# Altium schematic symbol library PMIC.SchLib: 20 symbols
Pins are listed as number, name and electrical type; pins without a type are passive.

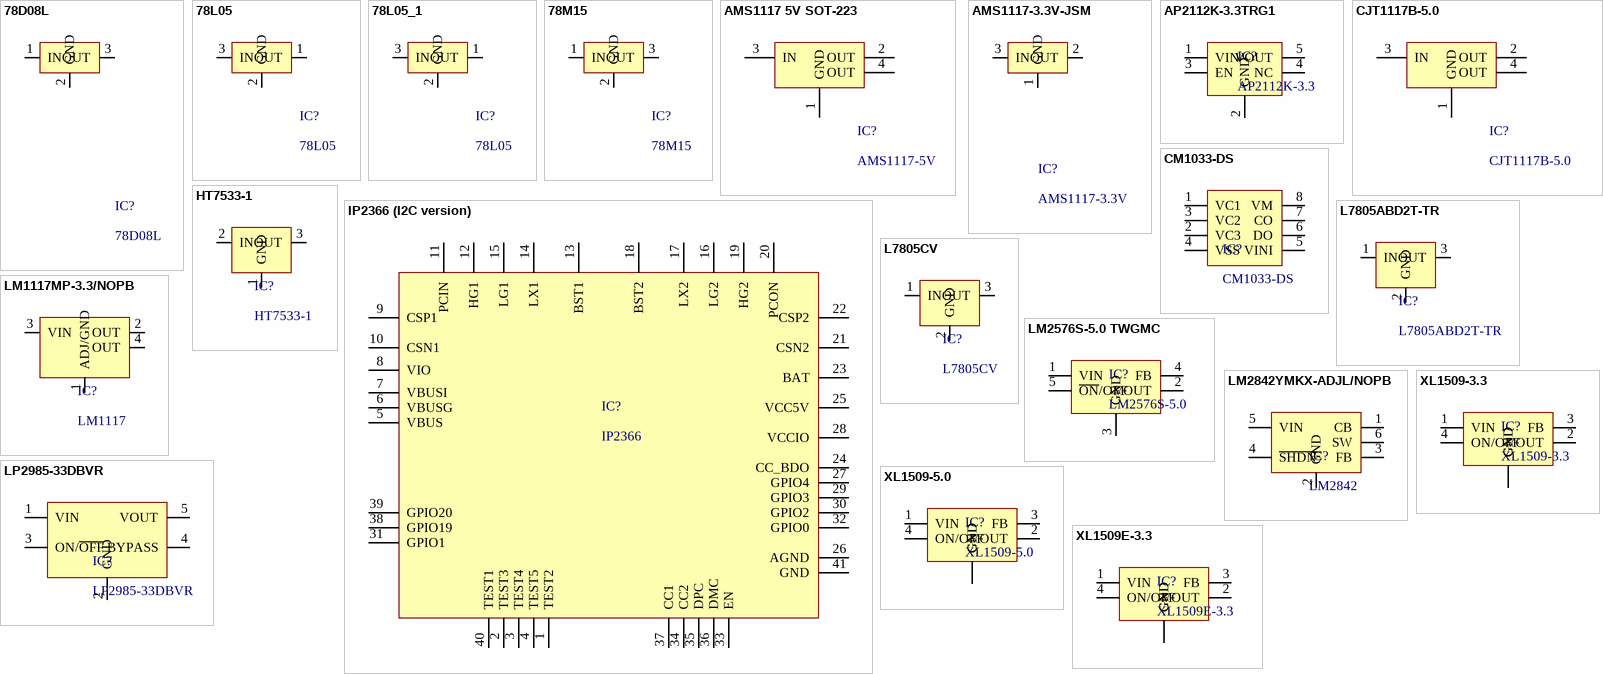
[diagram p0: symbols 78D08L to XL1509E-3.3]

## 78D08L
designator IC?
80dB@(120Hz) 1A Fixed 8V Positive 23V TO-252-2 Voltage Regulators - Linear, Low Drop Out (LDO) Regulators ROHS; Manufacturer: UMW; Mfr.Part #: 78D08L; Package: TO-252-2; LCSC Part #: C347286
footprint TO-252
pins: 1 IN, 2 GND, 3 OUT

## 78L05
designator IC?
100mA Fixed 5V Positive electrode 30V SOT-89 Voltage Regulators - Linear, Low Drop Out (LDO) Regulators ROHS; Manufacturer: MSKSEMI; Mfr.Part #: MS78L05; So_Chan_Dan: 3; So_Chan_Cam: 0; Name: 78L05; ComponentLink1Description: New link; ComponentLink1URL: https://www.lcsc.com/datasheet/lcsc_datasheet_2311231510_MSKSEMI-AMS1117-5-0V_C7473143.pdf; Package: SOT-89
footprint SOT-89
pins: 1 OUT, 2 GND, 3 IN

## 78L05_1
designator IC?, comment 78L05
100mA Fixed 5V Positive electrode 30V SOT-89 Voltage Regulators - Linear, Low Drop Out (LDO) Regulators ROHS; Manufacturer: MSKSEMI; Mfr.Part #: MS78L05; So_Chan_Dan: 3; So_Chan_Cam: 0; Name: 78L05; ComponentLink1Description: New link; ComponentLink1URL: https://www.lcsc.com/datasheet/lcsc_datasheet_2311231510_MSKSEMI-AMS1117-5-0V_C7473143.pdf; Package: SOT-89
footprint SOT-89
pins: 1 OUT, 2 GND, 3 IN

## 78M15
designator IC?
70dB@(120Hz) 1A Fixed 15V 35V TO-252 Voltage Regulators - Linear, Low Drop Out (LDO) Regulators ROHS; Manufacturer: UMW(Youtai Semiconductor Co., Ltd.); Mfr.Part #: 78M15; Package: TO-252
footprint TO-252
pins: 1 IN, 2 GND, 3 OUT

## AMS1117 5V SOT-223
designator IC?, comment AMS1117-5V
1A Fixed 5V Positive electrode 15V SOT-223 Voltage Regulators - Linear, Low Drop Out (LDO) Regulators ROHS; Manufacturer: MSKSEMI; Mfr.Part #: AMS1117-5.0(MS); So_Chan_Dan: 4; So_Chan_Cam: 0; Name: AMS1117-5.0(MS); ComponentLink1Description: New link; ComponentLink1URL: https://www.lcsc.com/product-detail/Voltage-Regulators-Linear-Low-Drop-Out-LDO-Regulators_MSKSEMI-AMS1117-5-0-MS_C20538892.html; Package: SOT-223
footprint SOT-223
pins: 1 GND, 2 OUT, 3 IN, 4 OUT

## AMS1117-3.3V-JSM
designator IC?, comment AMS1117-3.3V
1.2A Fixed 3.3V Positive electrode 15V SOT-89 Voltage Regulators - Linear, Low Drop Out (LDO) Regulators ROHS; Manufacturer: MSKSEMI; Mfr.Part #: AMS1117-3.3V-JSM; So_Chan_Dan: 3; So_Chan_Cam: 0; Name: AMS1117-3.3V; ComponentLink1Description: New link; ComponentLink1URL: https://www.lcsc.com/datasheet/lcsc_datasheet_2311231510_MSKSEMI-AMS1117-5-0V_C7473143.pdf; Package: SOT-89
footprint SOT-89
pins: 1 GND, 2 OUT, 3 IN

## AP2112K-3.3TRG1
designator IC?, comment AP2112K-3.3
65dB@(1kHz) 600mA Fixed 3.3V Positive 6V SOT-25-5 Voltage Regulators - Linear, Low Drop Out (LDO) Regulators ROHS; Manufacturer: Diodes Incorporated; Mfr.Part #: AP2112K-3.3TRG1; Package: SOT-25-5; LCSC Part #: C51118
footprint SOT25-5
pins: 1 VIN, 2 GND, 3 EN, 4 NC, 5 VOUT

## CJT1117B-5.0
designator IC?
75dB@(1kHz) 1A Fixed 5V Positive electrode 12V SOT-223 Voltage Regulators - Linear, Low Drop Out (LDO) Regulators ROHS; Manufacturer: Jiangsu Changjing Electronics Technology Co., Ltd.; Name: AMS1117-5.0(MS); So_Chan_Dan: 4; So_Chan_Cam: 0; Mfr.Part #: CJT1117B-5.0; ComponentLink1Description: New link; ComponentLink1URL: https://www.lcsc.com/product-detail/Voltage-Regulators-Linear-Low-Drop-Out-LDO-Regulators_Jiangsu-Changjing-Electronics-Technology-Co-Ltd-CJT1117B-5-0_C89273.html?s_z=n_CJT1117B; Package: SOT-223
footprint SOT-223
pins: 1 GND, 2 OUT, 3 IN, 4 OUT

## CM1033-DS
designator IC?
SOP-8 Battery Management ICs ROHS; Manufacturer: iCM; Mfr.Part #: CM1033-DS; Package: SOT-23-5; JLCPCB Part #: C2685513
footprint SOIC-8
pins: 1 VC1, 2 VC3, 3 VC2, 4 VSS, 5 VINI, 6 DO, 7 CO, 8 VM

## HT7533-1
designator IC?
100mA Fixed 3.3V Positive electrode 30V SOT-89 Voltage Regulators - Linear, Low Drop Out (LDO) Regulators ROHS; Manufacturer: UMW(Youtai Semiconductor Co., Ltd.); So_Chan_Dan: 3; So_Chan_Cam: 0; Mfr.Part #: HT7533-1; Package: SOT-89; Name: HT7533-1
footprint SOT-89
pins: 1 GND, 2 IN, 3 OUT

## IP2366 (I2C version)
designator IC?, comment IP2366
QFN-40(5x5) Power Management - Specialized ROHS; Manufacturer: INJOINIC; Mfr.Part #: IP2366 (I2C version); So_Chan_Dan: 40; So_Chan_Cam: 0; Package: QFN-40(5x5); Name: IP2366
footprint QFN-40(5x5)
pins: 1 TEST2, 2 TEST3, 3 TEST4, 4 TEST5, 5 VBUS, 6 VBUSG, 7 VBUSI, 8 VIO, 9 CSP1, 10 CSN1, 11 PCIN, 12 HG1, 13 BST1, 14 LX1, 15 LG1, 16 LG2, 17 LX2, 18 BST2, 19 HG2, 20 PCON, 21 CSN2, 22 CSP2, 23 BAT, 24 CC_BDO, 25 VCC5V, 26 AGND, 27 GPIO4, 28 VCCIO, 29 GPIO3, 30 GPIO2, 31 GPIO1, 32 GPIO0, 33 EN, 34 CC2, 35 DPC, 36 DMC, 37 CC1, 38 GPIO19, 39 GPIO20, 40 TEST1, 41 GND

## L7805ABD2T-TR
designator IC?
68dB@(120Hz) 1.5A Fixed 5V Positive electrode 35V TO-263-2 Voltage Regulators - Linear, Low Drop Out (LDO) Regulators ROHS; Manufacturer: STMicroelectronics; So_Chan_Dan: 3; So_Chan_Cam: 0; Mfr.Part #: L7805ABD2T-TR; Package: TO-263; Name: L7805ABD2T-TR
footprint TO-263
pins: 1 IN, 2 GND, 3 OUT

## L7805CV
designator IC?
62dB@(120Hz) 1.5A Fixed 5V Positive electrode 35V TO-220 Voltage Regulators - Linear, Low Drop Out (LDO) Regulators ROHS; Manufacturer: STMicroelectronics; So_Chan_Dan: 0; So_Chan_Cam: 3; Mfr.Part #: L7805CV; Package: TO-220; Name: L7805CV
footprint TO-220
pins: 1 IN, 2 GND, 3 OUT

## LM1117MP-3.3/NOPB
designator IC?, comment LM1117
75dB@(120Hz) 800mA Fixed 3.3V Positive electrode 15V SOT-223-4 Voltage Regulators - Linear, Low Drop Out (LDO) Regulators ROHS; Manufacturer: Texas Instruments; Mfr.Part #: LM1117MP-3.3/NOPB; Package: SOT-223-4; LCSC Part #: C2860766
footprint SOT-223
pins: 1 ADJ/GND, 2 OUT, 3 VIN, 4 OUT

## LM2576S-5.0 TWGMC
designator IC?, comment LM2576S-5.0
Step-down type Fixed 5V 40V~57V TO-263-5 DC-DC Converters ROHS; Manufacturer: TWGMC; Mfr.Part #: LM2576S-5.0; Package: TO-263-5
footprint TO-263-5L
pins: 1 VIN, 2 VOUT, 3 GND, 4 FB, 5 ~{ON}/OFF

## LM2842YMKX-ADJL/NOPB
designator IC?, comment LM2842
Step-down type 600mA 765mV~34V 4.5V~42V TSOT-23-6L DC-DC Converters ROHS; Manufacturer: Texas Instruments; Mfr.Part #: LM2842YMKX-ADJL/NOPB; Package: TSOT-23-6L; LCSC Part #: C545233
footprint SOT23-6
pins: 1 CB, 2 GND, 3 FB, 4 ~{SHDN}, 5 VIN, 6 SW

## LP2985-33DBVR
designator IC?
45dB@(1kHz) 150mA Fixed 3.3V Positive electrode 16V SOT-23-5 Voltage Regulators - Linear, Low Drop Out (LDO) Regulators ROHS; Manufacturer: Texas Instruments; So_Chan_Dan: 5; So_Chan_Cam: 0; Mfr.Part #: LP2985-33DBVR; Package: SOT-23-5; Name: LP2985-33DBVR
footprint SOT23-5
pins: 1 VIN, 2 GND, 3 ON/~{OFF}, 4 BYPASS, 5 VOUT

## XL1509-3.3
designator IC?
Step-down type Fixed 2A 3.3V 4.5V~40V SOP-8 DC-DC Converters ROHS; Manufacturer: UMW(Youtai Semiconductor Co., Ltd.); So_Chan_Dan: 9; So_Chan_Cam: 0; Mfr.Part #: XL1509-3.3; Package: SOP-8; Name: XL1509-3.3
footprint SOIC-8
pins: 1 VIN, 2 VOUT, 3 FB, 4 ON/OFF, 5 GND, 6 GND, 7 GND, 8 GND

## XL1509-5.0
designator IC?
Step-down type Fixed 5V 2A 4.5V~40V SOIC-8 DC-DC Converters ROHS; Manufacturer: UMW(Youtai Semiconductor Co., Ltd.); So_Chan_Dan: 9; So_Chan_Cam: 0; Mfr.Part #: XL1509-5.0; Package: SOP-8; Name: XL1509-5.0
footprint SOIC-8
pins: 1 VIN, 2 VOUT, 3 FB, 4 ON/OFF, 5 GND, 6 GND, 7 GND, 8 GND

## XL1509E-3.3
designator IC?
Step-down type Fixed 3.3V 2A 4.5V~40V ESOP-8 DC-DC Converters ROHS; Manufacturer: UMW(Youtai Semiconductor Co., Ltd.); So_Chan_Dan: 7; So_Chan_Cam: 0; Mfr.Part #: XL1509E-3.3; Package: ESOP-8; Name: XL1509E-3.3
footprint ESOP-8
pins: 1 VIN, 2 VOUT, 3 FB, 4 ON/OFF, 5 GND, 6 GND, 7 GND, 8 GND